# Altium footprint library painel_meb.PcbLib: 17 footprints (part 1 of 2)
Each footprint in its own frame and in the unit in brackets; x right, y up, seen from the top. Pads: shape width x height; smd on the part's side, far side on the other; paste and mask are expansions set on the pad; w line width, h text height; cw(c..) or ccw(c..) is an arc to the next point about the centre after c.
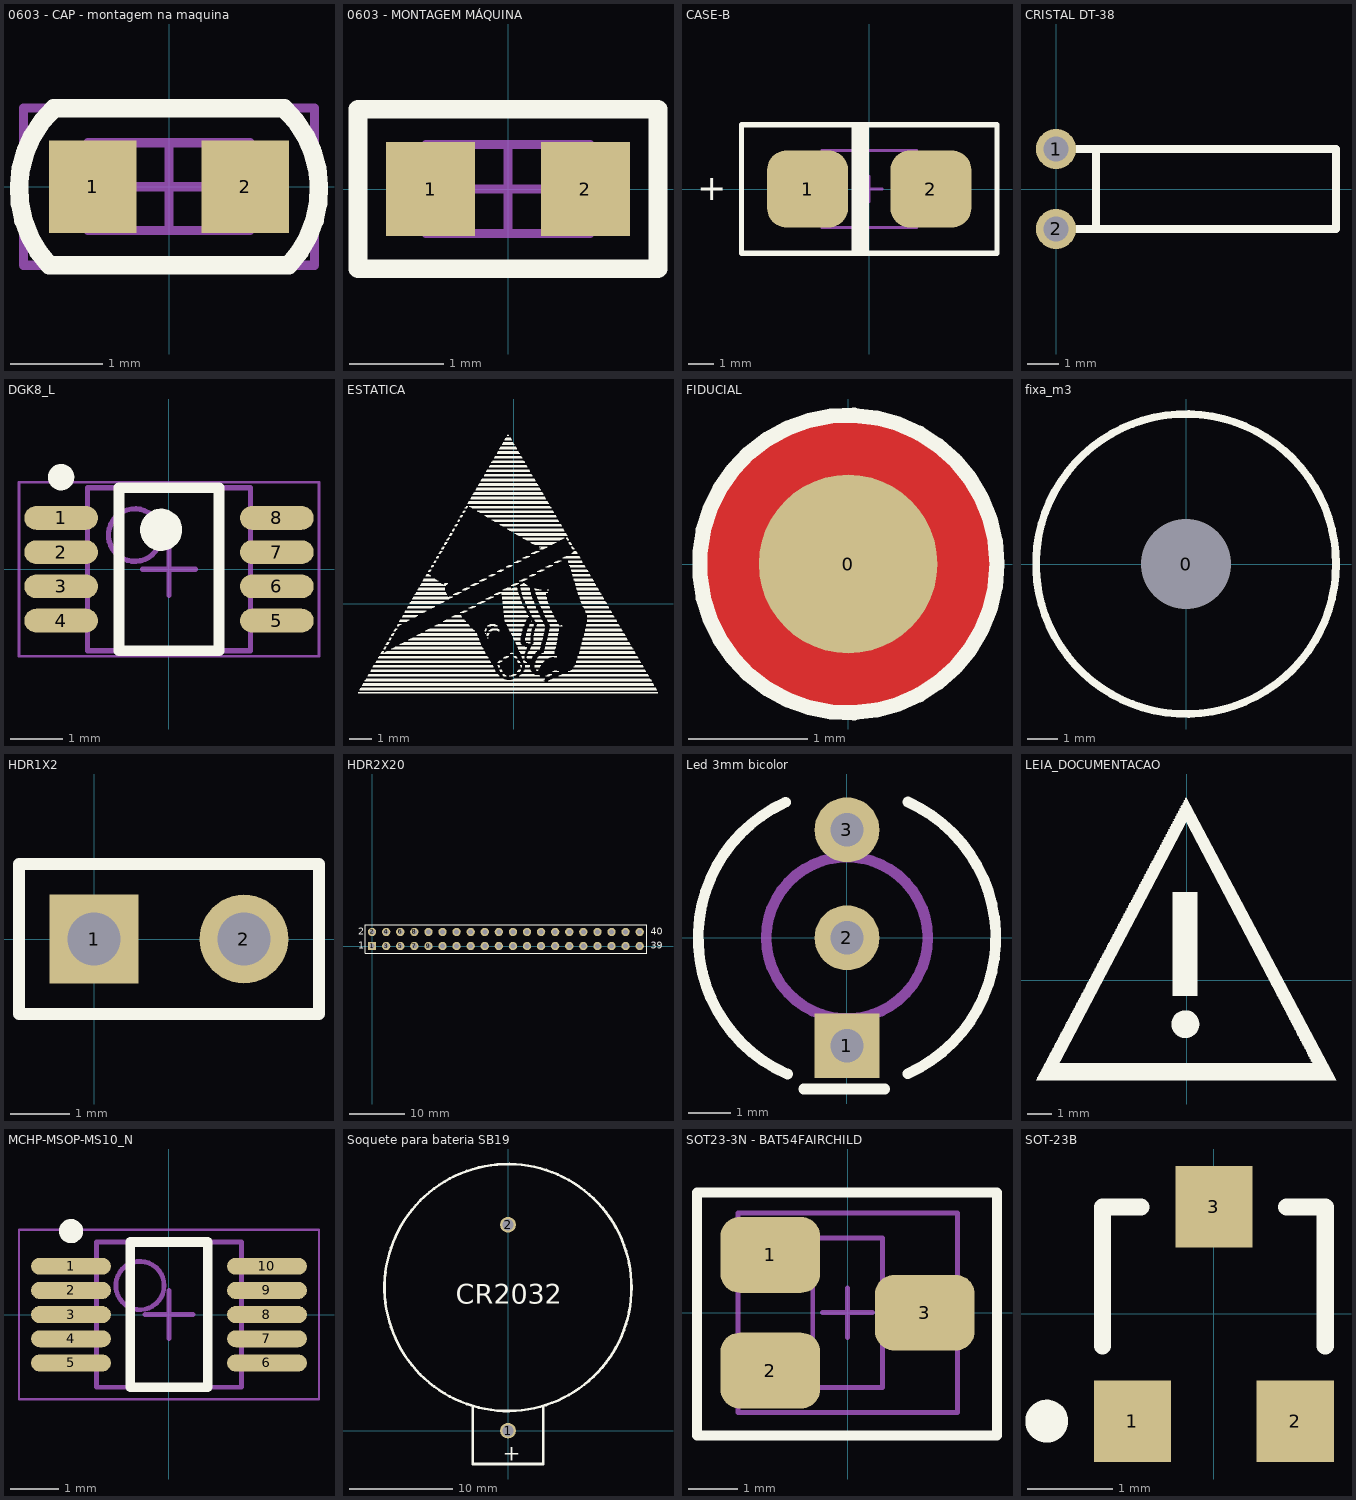
[diagram p0: the footprints below, top view; thin cyan lines are the x and y axes]

## 0603 - CAP - montagem na maquina [mm] "Chip Capacitor, 2-Leads, Body 1,6x0,8mm, IPC Medium Density"
height 0.55
pads (2):
  rect 0.95x1 smd: 1(-0.825,0) 2(0.825,0)
Top Overlay:
  lines w0.2: -1.295,-0.85 cw(c-0.42,-0.025) -1.245,0.85 1.245,0.85 cw(c0.42,-0.025) 1.295,-0.85 -1.295,-0.85
Mechanical 13:
  lines w0.1: -0.875,-0.475 -0.875,0.475 0.875,0.475 0.875,-0.475 -0.875,-0.475
Mechanical 15:
  lines w0.1: -0.475,0 0.475,0 ; 0,-0.475 0,0.475 ; -1.575,-0.85 -1.575,0.85 1.575,0.85 1.575,-0.85 -1.575,-0.85
3D body: height 0.6, standoff 0, extent -0.889,-0.483 -0.457,0.483
3D body: height 0.6, standoff 0, extent 0.457,-0.483 0.889,0.483
3D body: height 0.55, standoff 0, extent -0.875,-0.475 0.875,0.475

## 0603 - MONTAGEM MÁQUINA [mm] "Chip Resistor, 2-Leads, Body 1,6x0,8mm, IPC Medium Density"
height 0.55
pads (2):
  rect 0.95x1 smd: 1(-0.825,0) 2(0.825,0)
Top Overlay:
  lines w0.2: -1.6,-0.85 1.6,-0.85 1.6,0.85 -1.6,0.85 -1.6,-0.85
Mechanical 13:
  lines w0.1: -0.875,-0.475 0.875,-0.475 0.875,0.475 -0.875,0.475 -0.875,-0.475
Mechanical 15:
  lines w0.1: -0.475,0 0.475,0 ; 0,-0.475 0,0.475 ; -1.575,-0.85 1.575,-0.85 1.575,0.85 -1.575,0.85 -1.575,-0.85
3D body: height 0.6, standoff 0, extent 0.457,-0.483 0.889,0.483
3D body: height 0.6, standoff 0, extent -0.889,-0.483 -0.457,0.483
3D body: height 0.55, standoff 0, extent -0.875,-0.475 0.875,0.475

## CASE-B [mm] "Capacitor de tântalo"
height 1.9
pads (2):
  rrect50% 3.15x3 smd mask+0.127: 1(-2.4,0) 2(2.4,0)
Top Overlay:
  rectangle: -0.686,-2.5 0,2.5
  lines w0.2: -4.975,-2.5 4.975,-2.5 4.975,2.5 -4.975,2.5 -4.975,-2.5
  text "+" at -6.706,-0.432 h1
Mechanical 13:
  rectangle: -1.85,-1.5 -1.352,1.5
  lines w0.1: -1.85,-1.5 -1.85,1.5 1.85,1.5 1.85,-1.5 -1.85,-1.5
Mechanical 15:
  lines w0.1: -0.5,0 0.5,0 ; 0,-0.5 0,0.5 ; -4.975,-2.5 -4.975,2.5 4.975,2.5 4.975,-2.5 -4.975,-2.5
3D body: height 1, standoff 0, extent -1.905,-1.143 -1.651,1.143
3D body: height 1, standoff 0, extent 1.651,-1.143 1.905,1.143
3D body: height 2, standoff 0, extent -1.626,-1.549 -0.533,1.549
3D body: height 1.9, standoff 0, extent -1.85,-1.5 1.85,1.5

## CRISTAL DT-38 [mil] "PTH"
pads (2):
  round 50 hole 31: 1(0,50) 2(0,-50)
Top Overlay:
  lines w10: 25,-50 50,-50 ; 25,50 50,50 ; 50,-50 350,-50 350,50 50,50 ; 50,-50 50,50
3D body: height 101.96, standoff 0, extent 42.46,-56.16 349.54,46

## DGK8_L [mm] "TSOP, 8-Leads, Body 3x3mm, Pitch 0.65mm, IPC High Density"
height 1.1
pads (8):
  oval 1.4x0.45 smd: 1(-2.05,0.975) 2(-2.05,0.325) 3(-2.05,-0.325) 4(-2.05,-0.975) 5(2.05,-0.975) 6(2.05,-0.325) 7(2.05,0.325) 8(2.05,0.975)
Top Overlay:
  circle w0.25: c-2.05,1.75 r0.125
  circle w0.4: c-0.15,0.75 r0.2
  lines w0.2: -0.95,-1.55 -0.95,1.55 0.95,1.55 0.95,-1.55 -0.95,-1.55
Mechanical 13:
  circle w0.1: c-0.65,0.65 r0.5
  lines w0.1: -1.55,-1.55 -1.55,1.55 1.55,1.55 1.55,-1.55 -1.55,-1.55
Mechanical 15:
  lines w0.05: -2.85,-1.65 -2.85,1.65 2.85,1.65 2.85,-1.65 -2.85,-1.65
  lines w0.1: -0.5,0 0.5,0 ; 0,-0.5 0,0.5
3D body: height 1.1, standoff 0.05, extent -1.55,-1.55 1.55,1.55

## ESTATICA [mm]
Top Overlay:
  drawing of 1681 lines, arcs and shapes, not listed

## FIDUCIAL [mm]
pads (1):
  round 1.5 all layers, no hole paste+0 mask+0.4: 0(0,0)
Top Layer:
  pour cut-out: -0.686,1.041 -0.457,1.168 -0.279,1.219 -0.102,1.245 0.102,1.245 0.33,1.194 0.584,1.118 0.711,1.016 0.889,0.889 1.016,0.737 1.143,0.559 1.219,0.305 1.245,0.127 1.245,-0.152 1.219,-0.305 1.118,-0.584 0.889,-0.914 0.737,-1.016 0.559,-1.118 0.305,-1.219 0.102,-1.245 -0.178,-1.245 -0.432,-1.219 -0.737,-0.991 -0.889,-0.838 -1.143,-0.533 -1.194,-0.381 -1.27,-0.229 -1.27,0.025 -1.245,0.178 -1.168,0.457 -1.016,0.686 -0.914,0.864
Bottom Layer:
  pour cut-out: -0.686,1.041 -0.457,1.168 -0.279,1.219 -0.102,1.245 0.102,1.245 0.33,1.194 0.584,1.118 0.711,1.016 0.889,0.889 1.016,0.737 1.143,0.559 1.219,0.305 1.245,0.127 1.245,-0.152 1.219,-0.305 1.118,-0.584 0.889,-0.914 0.737,-1.016 0.559,-1.118 0.305,-1.219 0.102,-1.245 -0.178,-1.245 -0.432,-1.219 -0.737,-0.991 -0.889,-0.838 -1.143,-0.533 -1.194,-0.381 -1.27,-0.229 -1.27,0.025 -1.245,0.178 -1.168,0.457 -1.016,0.686 -0.914,0.864
Top Overlay:
  circle w0.127: c0,0 r1.25
Bottom Overlay:
  circle w0.127: c0,0 r1.25

## fixa_m3 [mil] "Furo de fixação - parafuso m3"
pads (1):
  round 60 hole 118.11 unplated: 0(0,0)
Top Overlay:
  circle w10: c0,0 r196.85

## HDR1X2 [mm] "Connector; Header; 2 Position"
pads (2):
  rect 1.5x1.5 hole 0.9: 1(0,0)
  round 1.5 hole 0.9: 2(2.54,0)
Top Overlay:
  lines w0.2: -1.27,-1.27 3.81,-1.27 3.81,1.27 -1.27,1.27 -1.27,-1.27

## HDR2X20 [mm] "Connector; Header; 20x2 Position"
pads (40):
  rect 1.5x1.5 hole 0.9: 1(0,0)
  round 1.5 hole 0.9: 2(0,2.54) 3(2.54,0) 4(2.54,2.54) 5(5.08,0) 6(5.08,2.54) 7(7.62,0) 8(7.62,2.54) 9(10.16,0) 10(10.16,2.54) 11(12.7,0) 12(12.7,2.54) 13(15.24,0) 14(15.24,2.54) 15(17.78,0) 16(17.78,2.54) 17(20.32,0) 18(20.32,2.54) 19(22.86,0) 20(22.86,2.54) 21(25.4,0) 22(25.4,2.54) 23(27.94,0) 24(27.94,2.54) 25(30.48,0) 26(30.48,2.54) 27(33.02,0) 28(33.02,2.54) 29(35.56,0) 30(35.56,2.54) 31(38.1,0) 32(38.1,2.54) 33(40.64,0) 34(40.64,2.54) 35(43.18,0) 36(43.18,2.54) 37(45.72,0) 38(45.72,2.54) 39(48.26,0) 40(48.26,2.54)
Top Overlay:
  lines w0.2: -1.27,-1.27 49.53,-1.27 49.53,3.81 -1.27,3.81 -1.27,-1.27
  text "1" at -2.54,-0.508 h1.27
  text "2" at -2.54,2.032 h1.27
  text "40" at 50.292,2.032 h1.27
  text "39" at 50.292,-0.508 h1.27

## Led 3mm bicolor [mil]
height 21.65
pads (3):
  rect 60x60 hole 31: 1(0,-100)
  round 60 hole 31: 2(0,0) 3(0,100)
Top Overlay:
  lines w10: -57.02,125.44 ccw(c0,0) -55.23,-126.24 ; -40,-140 35,-140 ; 56.2,-125.82 ccw(c0,0) 56.49,125.68
Mechanical 1:
  circle w10: c0,0 r74.8
3D body: height 39.37, standoff 0, extent -9.61,-88.56 10,-68.92
3D body: height 39.37, standoff 0, extent -69.02,-75.92 80,73.4
3D body: height 204.72, standoff 86.61, extent -53.75,-53.87 63.75,63.74
3D body: height 145.67, standoff 0, extent -52.64,-56.26 65,61.62
3D body: height 39.37, standoff 0, extent -9.61,-11.08 10,8.56
3D body: height 39.37, standoff 0, extent -10,68.92 9.61,88.56

## LEIA_DOCUMENTACAO [mm]
Top Overlay:
  drawing of 871 lines, arcs and shapes, not listed

## MCHP-MSOP-MS10_N [mm] "SOP, 10-Leads, Body 3x3mm, Pitch 0.5mm, IPC Medium Density"
height 1.1
pads (10):
  oval 1.65x0.35 smd: 1(-2.025,1) 2(-2.025,0.5) 3(-2.025,0) 4(-2.025,-0.5) 5(-2.025,-1) 6(2.025,-1) 7(2.025,-0.5) 8(2.025,0) 9(2.025,0.5) 10(2.025,1)
Top Overlay:
  circle w0.25: c-2.025,1.725 r0.125
  lines w0.2: -0.8,-1.5 0.8,-1.5 0.8,1.5 -0.8,1.5 -0.8,-1.5
Mechanical 13:
  circle w0.1: c-0.6,0.6 r0.5
  lines w0.1: -1.5,-1.5 1.5,-1.5 1.5,1.5 -1.5,1.5 -1.5,-1.5
Mechanical 15:
  lines w0.05: -3.1,-1.75 3.1,-1.75 3.1,1.75 -3.1,1.75 -3.1,-1.75
  lines w0.1: -0.5,0 0.5,0 ; 0,-0.5 0,0.5
3D body: height 1.1, standoff 0, extent -1.5,-1.5 1.5,1.5

## Soquete para bateria SB19 [mil] "Soquete para bateria SB19 CR2032"
pads (2):
  round 60 hole 43: 1(0,0) 2(0,787.4)
Top Overlay:
  circle w10: c0,547.4 r472.44
  lines w10: -135,92.4 -135,-127.6 0,-127.6 135,-127.6 135,92.4
  text "CR2032" at -200,485 h76
  text "+" at -20,-115 h60
3D body: height 39.37, standoff 0, extent -15.81,772.37 15.69,803.87
3D body: height 39.37, standoff 0, extent -15.81,-15.03 15.69,16.46
3D body: height 196.85, standoff 0, extent -15.12,772.37 16.37,803.87
3D body: height 196.85, standoff 0, extent -15.12,-15.03 16.37,16.46
3D body: height 255.91, standoff 0, extent -120,-105 120,115
3D body: height 196.85, standoff 78.74, extent -453.57,99.23 451.94,1004.49
3D body: height 354.33, standoff 314.96, extent -55,-35 55,655
3D body: height 354.33, standoff 196.85, extent -55,-35 55,35
3D body: height 200.79, standoff 196.85, extent -55,500 55,840

## SOT23-3N - BAT54FAIRCHILD [mm] "SOT23, 3-Leads, Body 2.9x1.3mm, Pitch 0.95mm, Lead Span 2.5mm, IPC Medium Density"
height 1.1
pads (3):
  rrect50% 2x1.52 smd: 1(-1.55,1.16) 2(-1.55,-1.16) 3(1.55,0)
Top Overlay:
  lines w0.2: -3.023,-2.464 2.997,-2.464 2.997,2.413 -3.023,2.413 -3.023,-2.464
Mechanical 13:
  lines w0.1: -0.7,-1.5 0.7,-1.5 0.7,1.5 -0.7,1.5 -0.7,-1.5
Mechanical 15:
  lines w0.1: -0.5,0 0.5,0 ; 0,-0.5 0,0.5 ; -2.2,-2 2.2,-2 2.2,2 -2.2,2 -2.2,-2
3D body: height 1.1, standoff 0, extent -0.7,-1.5 0.7,1.5

## SOT-23B [mm] "SOT-23; 3 Leads; Body 3.0 x 2.6 mm, inc. leads (LxW max)"
height 1.1
pads (3):
  rect 0.9x0.95 smd: 1(-0.95,-1.25) 2(0.95,-1.25) 3(0,1.25)
Top Overlay:
  circle w0.25: c-1.95,-1.25 r0.125
  lines w0.2: -1.3,-0.375 -1.3,1.25 -0.85,1.25 ; 0.85,1.25 1.3,1.25 1.3,-0.375